# Altium footprint library Connector_Molex.PcbLib: 815 footprints (part 23 of 51)
Each footprint in its own frame and in the unit in brackets; x right, y up, seen from the top. Pads: shape width x height; smd on the part's side, far side on the other; paste and mask are expansions set on the pad; w line width, h text height; cw(c..) or ccw(c..) is an arc to the next point about the centre after c.
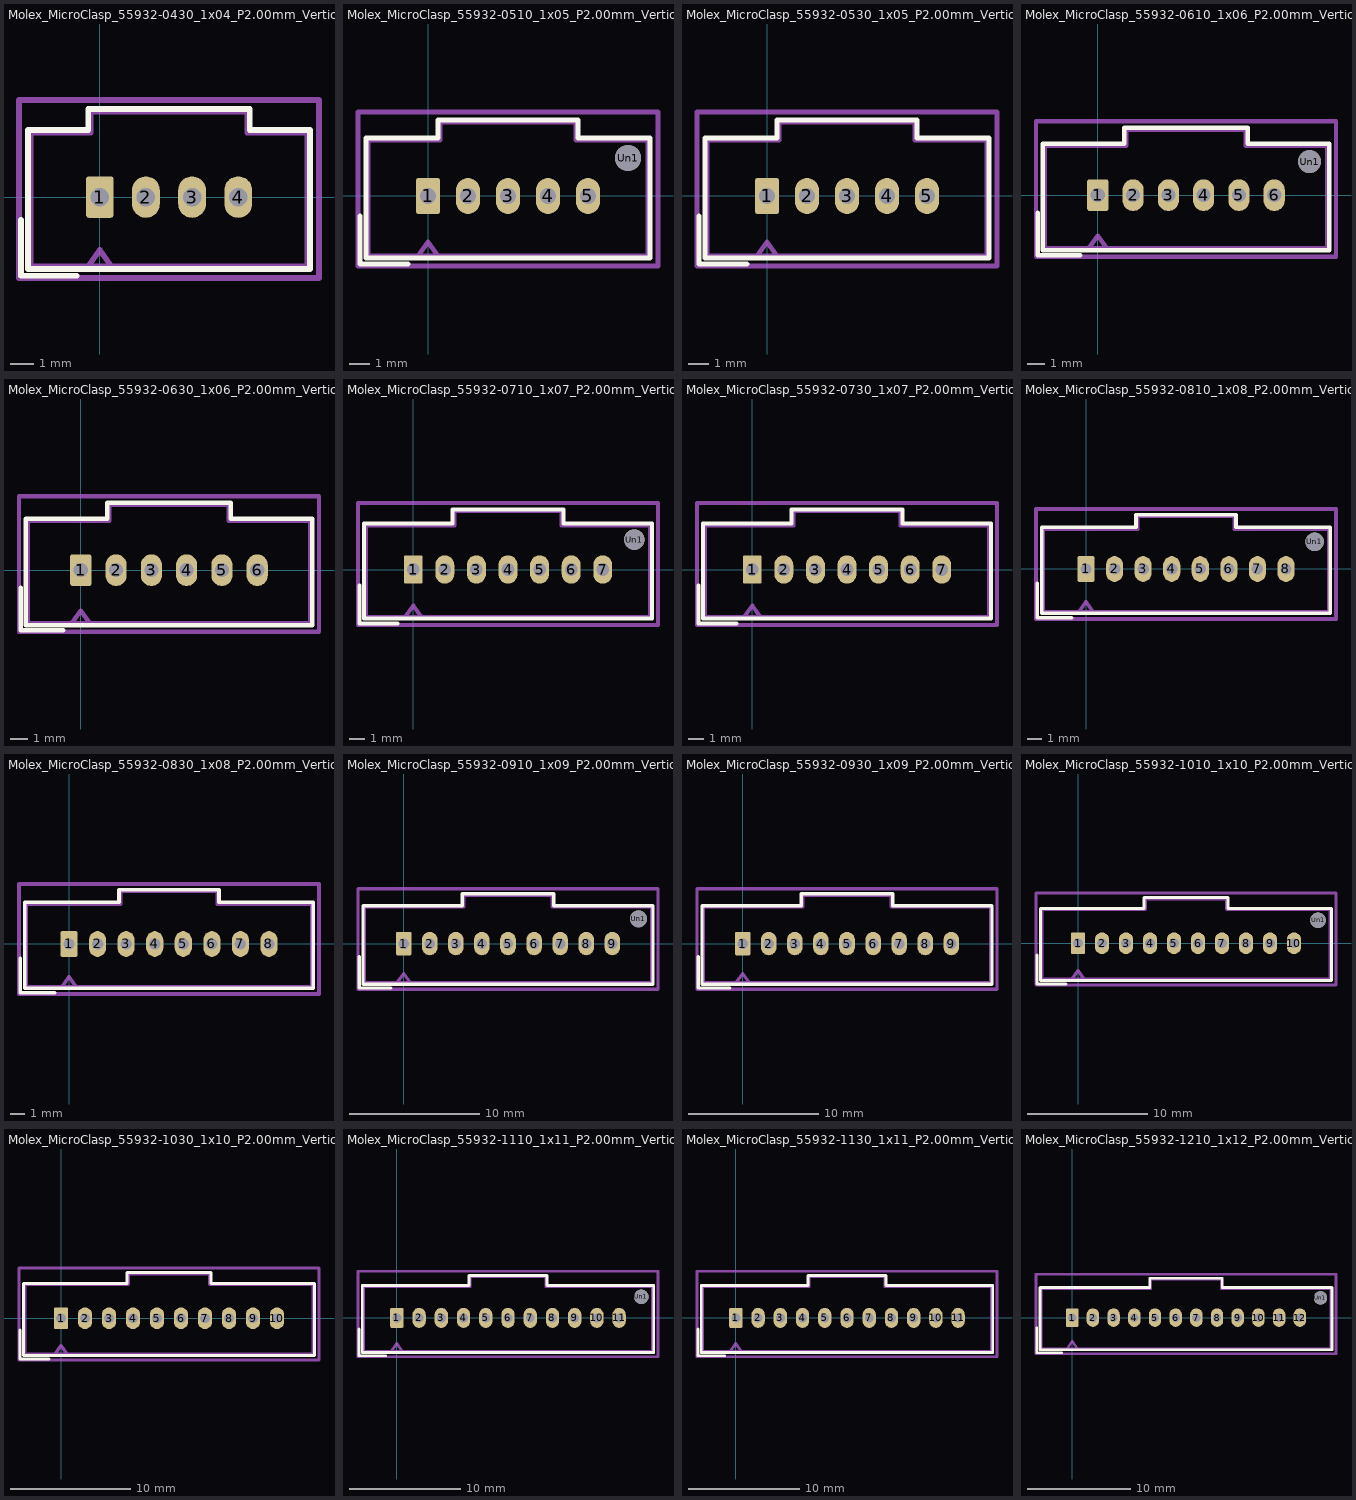
[diagram p22: the footprints below, top view; thin cyan lines are the x and y axes]

## Molex_MicroClasp_55932-0430_1x04_P2.00mm_Vertical [mm]
pads (4):
  rrect21% 1.2x1.8 hole 0.8: 1(0,0)
  rrect100% 1.2x1.8 hole 0.8: 2(2,0) 3(4,0) 4(6,0)
F.SilkS:
  lines w0.254: -3.41,-1 -3.41,-3.41 -1,-3.41 ; -3.11,-3.11 3,-3.11 9.11,-3.11 9.11,2.91 6.5,2.91 6.5,3.81 3,3.81 -0.5,3.81 -0.5,2.91 -3.11,2.91 -3.11,-3.11
Top Assembly:
  lines w0.254: -0.5,-3 0,-2.293 0.5,-3 ; -3,-3 3,-3 9,-3 9,2.8 6.39,2.8 6.39,3.7 3,3.7 -0.39,3.7 -0.39,2.8 -3,2.8 -3,-3
  text "'.Designator'" at -1.047,1.26 h1
Top Courtyard:
  lines w0.254: -3.5,-3.5 9.5,-3.5 9.5,4.2 -3.5,4.2 -3.5,-3.5
Top Designator:
  text ".Designator" at -4.618,-0.158 h1.52

## Molex_MicroClasp_55932-0510_1x05_P2.00mm_Vertical [mm]
pads (6):
  rrect21% 1.2x1.8 hole 0.8: 1(0,0)
  rrect100% 1.2x1.8 hole 0.8: 2(2,0) 3(4,0) 4(6,0) 5(8,0)
  round 1.3 hole 1.3: Un1(10,1.9)
F.SilkS:
  lines w0.254: -3.41,-1 -3.41,-3.41 -1,-3.41 ; -3.11,-3.11 4,-3.11 11.11,-3.11 11.11,2.91 7.5,2.91 7.5,3.81 4,3.81 0.5,3.81 0.5,2.91 -3.11,2.91 -3.11,-3.11
Top Assembly:
  lines w0.254: -0.5,-3 0,-2.293 0.5,-3 ; -3,-3 4,-3 11,-3 11,2.8 7.39,2.8 7.39,3.7 4,3.7 0.61,3.7 0.61,2.8 -3,2.8 -3,-3
  text "'.Designator'" at -0.047,1.26 h1
Top Courtyard:
  lines w0.254: -3.5,-3.5 11.5,-3.5 11.5,4.2 -3.5,4.2 -3.5,-3.5
Top Designator:
  text ".Designator" at -3.618,-0.158 h1.52

## Molex_MicroClasp_55932-0530_1x05_P2.00mm_Vertical [mm]
pads (5):
  rrect21% 1.2x1.8 hole 0.8: 1(0,0)
  rrect100% 1.2x1.8 hole 0.8: 2(2,0) 3(4,0) 4(6,0) 5(8,0)
F.SilkS:
  lines w0.254: -3.41,-1 -3.41,-3.41 -1,-3.41 ; -3.11,-3.11 4,-3.11 11.11,-3.11 11.11,2.91 7.5,2.91 7.5,3.81 4,3.81 0.5,3.81 0.5,2.91 -3.11,2.91 -3.11,-3.11
Top Assembly:
  lines w0.254: -0.5,-3 0,-2.293 0.5,-3 ; -3,-3 4,-3 11,-3 11,2.8 7.39,2.8 7.39,3.7 4,3.7 0.61,3.7 0.61,2.8 -3,2.8 -3,-3
  text "'.Designator'" at -0.047,1.26 h1
Top Courtyard:
  lines w0.254: -3.5,-3.5 11.5,-3.5 11.5,4.2 -3.5,4.2 -3.5,-3.5
Top Designator:
  text ".Designator" at -3.618,-0.158 h1.52

## Molex_MicroClasp_55932-0610_1x06_P2.00mm_Vertical [mm]
pads (7):
  rrect21% 1.2x1.8 hole 0.8: 1(0,0)
  rrect100% 1.2x1.8 hole 0.8: 2(2,0) 3(4,0) 4(6,0) 5(8,0) 6(10,0)
  round 1.3 hole 1.3: Un1(12,1.9)
F.SilkS:
  lines w0.254: -3.41,-1 -3.41,-3.41 -1,-3.41 ; -3.11,-3.11 5,-3.11 13.11,-3.11 13.11,2.91 8.5,2.91 8.5,3.81 5,3.81 1.5,3.81 1.5,2.91 -3.11,2.91 -3.11,-3.11
Top Assembly:
  lines w0.254: -0.5,-3 0,-2.293 0.5,-3 ; -3,-3 5,-3 13,-3 13,2.8 8.39,2.8 8.39,3.7 5,3.7 1.61,3.7 1.61,2.8 -3,2.8 -3,-3
  text "'.Designator'" at 0.953,1.26 h1
Top Courtyard:
  lines w0.254: -3.5,-3.5 13.5,-3.5 13.5,4.2 -3.5,4.2 -3.5,-3.5
Top Designator:
  text ".Designator" at -2.618,-0.158 h1.52

## Molex_MicroClasp_55932-0630_1x06_P2.00mm_Vertical [mm]
pads (6):
  rrect21% 1.2x1.8 hole 0.8: 1(0,0)
  rrect100% 1.2x1.8 hole 0.8: 2(2,0) 3(4,0) 4(6,0) 5(8,0) 6(10,0)
F.SilkS:
  lines w0.254: -3.41,-1 -3.41,-3.41 -1,-3.41 ; -3.11,-3.11 5,-3.11 13.11,-3.11 13.11,2.91 8.5,2.91 8.5,3.81 5,3.81 1.5,3.81 1.5,2.91 -3.11,2.91 -3.11,-3.11
Top Assembly:
  lines w0.254: -0.5,-3 0,-2.293 0.5,-3 ; -3,-3 5,-3 13,-3 13,2.8 8.39,2.8 8.39,3.7 5,3.7 1.61,3.7 1.61,2.8 -3,2.8 -3,-3
  text "'.Designator'" at 0.953,1.26 h1
Top Courtyard:
  lines w0.254: -3.5,-3.5 13.5,-3.5 13.5,4.2 -3.5,4.2 -3.5,-3.5
Top Designator:
  text ".Designator" at -2.618,-0.158 h1.52

## Molex_MicroClasp_55932-0710_1x07_P2.00mm_Vertical [mm]
pads (8):
  rrect21% 1.2x1.8 hole 0.8: 1(0,0)
  rrect100% 1.2x1.8 hole 0.8: 2(2,0) 3(4,0) 4(6,0) 5(8,0) 6(10,0) 7(12,0)
  round 1.3 hole 1.3: Un1(14,1.9)
F.SilkS:
  lines w0.254: -3.41,-1 -3.41,-3.41 -1,-3.41 ; -3.11,-3.11 6,-3.11 15.11,-3.11 15.11,2.91 9.5,2.91 9.5,3.81 6,3.81 2.5,3.81 2.5,2.91 -3.11,2.91 -3.11,-3.11
Top Assembly:
  lines w0.254: -0.5,-3 0,-2.293 0.5,-3 ; -3,-3 6,-3 15,-3 15,2.8 9.39,2.8 9.39,3.7 6,3.7 2.61,3.7 2.61,2.8 -3,2.8 -3,-3
  text "'.Designator'" at 1.953,1.26 h1
Top Courtyard:
  lines w0.254: -3.5,-3.5 15.5,-3.5 15.5,4.2 -3.5,4.2 -3.5,-3.5
Top Designator:
  text ".Designator" at -1.618,-0.158 h1.52

## Molex_MicroClasp_55932-0730_1x07_P2.00mm_Vertical [mm]
pads (7):
  rrect21% 1.2x1.8 hole 0.8: 1(0,0)
  rrect100% 1.2x1.8 hole 0.8: 2(2,0) 3(4,0) 4(6,0) 5(8,0) 6(10,0) 7(12,0)
F.SilkS:
  lines w0.254: -3.41,-1 -3.41,-3.41 -1,-3.41 ; -3.11,-3.11 6,-3.11 15.11,-3.11 15.11,2.91 9.5,2.91 9.5,3.81 6,3.81 2.5,3.81 2.5,2.91 -3.11,2.91 -3.11,-3.11
Top Assembly:
  lines w0.254: -0.5,-3 0,-2.293 0.5,-3 ; -3,-3 6,-3 15,-3 15,2.8 9.39,2.8 9.39,3.7 6,3.7 2.61,3.7 2.61,2.8 -3,2.8 -3,-3
  text "'.Designator'" at 1.953,1.26 h1
Top Courtyard:
  lines w0.254: -3.5,-3.5 15.5,-3.5 15.5,4.2 -3.5,4.2 -3.5,-3.5
Top Designator:
  text ".Designator" at -1.618,-0.158 h1.52

## Molex_MicroClasp_55932-0810_1x08_P2.00mm_Vertical [mm]
pads (9):
  rrect21% 1.2x1.8 hole 0.8: 1(0,0)
  rrect100% 1.2x1.8 hole 0.8: 2(2,0) 3(4,0) 4(6,0) 5(8,0) 6(10,0) 7(12,0) 8(14,0)
  round 1.3 hole 1.3: Un1(16,1.9)
F.SilkS:
  lines w0.254: -3.41,-1 -3.41,-3.41 -1,-3.41 ; -3.11,-3.11 7,-3.11 17.11,-3.11 17.11,2.91 10.5,2.91 10.5,3.81 7,3.81 3.5,3.81 3.5,2.91 -3.11,2.91 -3.11,-3.11
Top Assembly:
  lines w0.254: -0.5,-3 0,-2.293 0.5,-3 ; -3,-3 7,-3 17,-3 17,2.8 10.39,2.8 10.39,3.7 7,3.7 3.61,3.7 3.61,2.8 -3,2.8 -3,-3
  text "'.Designator'" at 2.953,1.26 h1
Top Courtyard:
  lines w0.254: -3.5,-3.5 17.5,-3.5 17.5,4.2 -3.5,4.2 -3.5,-3.5
Top Designator:
  text ".Designator" at -0.618,-0.158 h1.52

## Molex_MicroClasp_55932-0830_1x08_P2.00mm_Vertical [mm]
pads (8):
  rrect21% 1.2x1.8 hole 0.8: 1(0,0)
  rrect100% 1.2x1.8 hole 0.8: 2(2,0) 3(4,0) 4(6,0) 5(8,0) 6(10,0) 7(12,0) 8(14,0)
F.SilkS:
  lines w0.254: -3.41,-1 -3.41,-3.41 -1,-3.41 ; -3.11,-3.11 7,-3.11 17.11,-3.11 17.11,2.91 10.5,2.91 10.5,3.81 7,3.81 3.5,3.81 3.5,2.91 -3.11,2.91 -3.11,-3.11
Top Assembly:
  lines w0.254: -0.5,-3 0,-2.293 0.5,-3 ; -3,-3 7,-3 17,-3 17,2.8 10.39,2.8 10.39,3.7 7,3.7 3.61,3.7 3.61,2.8 -3,2.8 -3,-3
  text "'.Designator'" at 2.953,1.26 h1
Top Courtyard:
  lines w0.254: -3.5,-3.5 17.5,-3.5 17.5,4.2 -3.5,4.2 -3.5,-3.5
Top Designator:
  text ".Designator" at -0.618,-0.158 h1.52

## Molex_MicroClasp_55932-0910_1x09_P2.00mm_Vertical [mm]
pads (10):
  rrect21% 1.2x1.8 hole 0.8: 1(0,0)
  rrect100% 1.2x1.8 hole 0.8: 2(2,0) 3(4,0) 4(6,0) 5(8,0) 6(10,0) 7(12,0) 8(14,0) 9(16,0)
  round 1.3 hole 1.3: Un1(18,1.9)
F.SilkS:
  lines w0.254: -3.41,-1 -3.41,-3.41 -1,-3.41 ; -3.11,-3.11 8,-3.11 19.11,-3.11 19.11,2.91 11.5,2.91 11.5,3.81 8,3.81 4.5,3.81 4.5,2.91 -3.11,2.91 -3.11,-3.11
Top Assembly:
  lines w0.254: -0.5,-3 0,-2.293 0.5,-3 ; -3,-3 8,-3 19,-3 19,2.8 11.39,2.8 11.39,3.7 8,3.7 4.61,3.7 4.61,2.8 -3,2.8 -3,-3
  text "'.Designator'" at 3.953,1.26 h1
Top Courtyard:
  lines w0.254: -3.5,-3.5 19.5,-3.5 19.5,4.2 -3.5,4.2 -3.5,-3.5
Top Designator:
  text ".Designator" at 0.382,-0.158 h1.52

## Molex_MicroClasp_55932-0930_1x09_P2.00mm_Vertical [mm]
pads (9):
  rrect21% 1.2x1.8 hole 0.8: 1(0,0)
  rrect100% 1.2x1.8 hole 0.8: 2(2,0) 3(4,0) 4(6,0) 5(8,0) 6(10,0) 7(12,0) 8(14,0) 9(16,0)
F.SilkS:
  lines w0.254: -3.41,-1 -3.41,-3.41 -1,-3.41 ; -3.11,-3.11 8,-3.11 19.11,-3.11 19.11,2.91 11.5,2.91 11.5,3.81 8,3.81 4.5,3.81 4.5,2.91 -3.11,2.91 -3.11,-3.11
Top Assembly:
  lines w0.254: -0.5,-3 0,-2.293 0.5,-3 ; -3,-3 8,-3 19,-3 19,2.8 11.39,2.8 11.39,3.7 8,3.7 4.61,3.7 4.61,2.8 -3,2.8 -3,-3
  text "'.Designator'" at 3.953,1.26 h1
Top Courtyard:
  lines w0.254: -3.5,-3.5 19.5,-3.5 19.5,4.2 -3.5,4.2 -3.5,-3.5
Top Designator:
  text ".Designator" at 0.382,-0.158 h1.52

## Molex_MicroClasp_55932-1010_1x10_P2.00mm_Vertical [mm]
pads (11):
  rrect21% 1.2x1.8 hole 0.8: 1(0,0)
  rrect100% 1.2x1.8 hole 0.8: 2(2,0) 3(4,0) 4(6,0) 5(8,0) 6(10,0) 7(12,0) 8(14,0) 9(16,0) 10(18,0)
  round 1.3 hole 1.3: Un1(20,1.9)
F.SilkS:
  lines w0.254: -3.41,-1 -3.41,-3.41 -1,-3.41 ; -3.11,-3.11 9,-3.11 21.11,-3.11 21.11,2.91 12.5,2.91 12.5,3.81 9,3.81 5.5,3.81 5.5,2.91 -3.11,2.91 -3.11,-3.11
Top Assembly:
  lines w0.254: -0.5,-3 0,-2.293 0.5,-3 ; -3,-3 9,-3 21,-3 21,2.8 12.39,2.8 12.39,3.7 9,3.7 5.61,3.7 5.61,2.8 -3,2.8 -3,-3
  text "'.Designator'" at 4.953,1.26 h1
Top Courtyard:
  lines w0.254: -3.5,-3.5 21.5,-3.5 21.5,4.2 -3.5,4.2 -3.5,-3.5
Top Designator:
  text ".Designator" at 1.382,-0.158 h1.52

## Molex_MicroClasp_55932-1030_1x10_P2.00mm_Vertical [mm]
pads (10):
  rrect21% 1.2x1.8 hole 0.8: 1(0,0)
  rrect100% 1.2x1.8 hole 0.8: 2(2,0) 3(4,0) 4(6,0) 5(8,0) 6(10,0) 7(12,0) 8(14,0) 9(16,0) 10(18,0)
F.SilkS:
  lines w0.254: -3.41,-1 -3.41,-3.41 -1,-3.41 ; -3.11,-3.11 9,-3.11 21.11,-3.11 21.11,2.91 12.5,2.91 12.5,3.81 9,3.81 5.5,3.81 5.5,2.91 -3.11,2.91 -3.11,-3.11
Top Assembly:
  lines w0.254: -0.5,-3 0,-2.293 0.5,-3 ; -3,-3 9,-3 21,-3 21,2.8 12.39,2.8 12.39,3.7 9,3.7 5.61,3.7 5.61,2.8 -3,2.8 -3,-3
  text "'.Designator'" at 4.953,1.26 h1
Top Courtyard:
  lines w0.254: -3.5,-3.5 21.5,-3.5 21.5,4.2 -3.5,4.2 -3.5,-3.5
Top Designator:
  text ".Designator" at 1.382,-0.158 h1.52

## Molex_MicroClasp_55932-1110_1x11_P2.00mm_Vertical [mm]
pads (12):
  rrect21% 1.2x1.8 hole 0.8: 1(0,0)
  rrect100% 1.2x1.8 hole 0.8: 2(2,0) 3(4,0) 4(6,0) 5(8,0) 6(10,0) 7(12,0) 8(14,0) 9(16,0) 10(18,0) 11(20,0)
  round 1.3 hole 1.3: Un1(22,1.9)
F.SilkS:
  lines w0.254: -3.41,-1 -3.41,-3.41 -1,-3.41 ; -3.11,-3.11 10,-3.11 23.11,-3.11 23.11,2.91 13.5,2.91 13.5,3.81 10,3.81 6.5,3.81 6.5,2.91 -3.11,2.91 -3.11,-3.11
Top Assembly:
  lines w0.254: -0.5,-3 0,-2.293 0.5,-3 ; -3,-3 10,-3 23,-3 23,2.8 13.39,2.8 13.39,3.7 10,3.7 6.61,3.7 6.61,2.8 -3,2.8 -3,-3
  text "'.Designator'" at 5.953,1.26 h1
Top Courtyard:
  lines w0.254: -3.5,-3.5 23.5,-3.5 23.5,4.2 -3.5,4.2 -3.5,-3.5
Top Designator:
  text ".Designator" at 2.382,-0.158 h1.52

## Molex_MicroClasp_55932-1130_1x11_P2.00mm_Vertical [mm]
pads (11):
  rrect21% 1.2x1.8 hole 0.8: 1(0,0)
  rrect100% 1.2x1.8 hole 0.8: 2(2,0) 3(4,0) 4(6,0) 5(8,0) 6(10,0) 7(12,0) 8(14,0) 9(16,0) 10(18,0) 11(20,0)
F.SilkS:
  lines w0.254: -3.41,-1 -3.41,-3.41 -1,-3.41 ; -3.11,-3.11 10,-3.11 23.11,-3.11 23.11,2.91 13.5,2.91 13.5,3.81 10,3.81 6.5,3.81 6.5,2.91 -3.11,2.91 -3.11,-3.11
Top Assembly:
  lines w0.254: -0.5,-3 0,-2.293 0.5,-3 ; -3,-3 10,-3 23,-3 23,2.8 13.39,2.8 13.39,3.7 10,3.7 6.61,3.7 6.61,2.8 -3,2.8 -3,-3
  text "'.Designator'" at 5.953,1.26 h1
Top Courtyard:
  lines w0.254: -3.5,-3.5 23.5,-3.5 23.5,4.2 -3.5,4.2 -3.5,-3.5
Top Designator:
  text ".Designator" at 2.382,-0.158 h1.52

## Molex_MicroClasp_55932-1210_1x12_P2.00mm_Vertical [mm]
pads (13):
  rrect21% 1.2x1.8 hole 0.8: 1(0,0)
  rrect100% 1.2x1.8 hole 0.8: 2(2,0) 3(4,0) 4(6,0) 5(8,0) 6(10,0) 7(12,0) 8(14,0) 9(16,0) 10(18,0) 11(20,0) 12(22,0)
  round 1.3 hole 1.3: Un1(24,1.9)
F.SilkS:
  lines w0.254: -3.41,-1 -3.41,-3.41 -1,-3.41 ; -3.11,-3.11 11,-3.11 25.11,-3.11 25.11,2.91 14.5,2.91 14.5,3.81 11,3.81 7.5,3.81 7.5,2.91 -3.11,2.91 -3.11,-3.11
Top Assembly:
  lines w0.254: -0.5,-3 0,-2.293 0.5,-3 ; -3,-3 11,-3 25,-3 25,2.8 14.39,2.8 14.39,3.7 11,3.7 7.61,3.7 7.61,2.8 -3,2.8 -3,-3
  text "'.Designator'" at 6.953,1.26 h1
Top Courtyard:
  lines w0.254: -3.5,-3.5 25.5,-3.5 25.5,4.2 -3.5,4.2 -3.5,-3.5
Top Designator:
  text ".Designator" at 3.382,-0.158 h1.52